# Altium schematic symbol library PowerAdjusment.SchLib: 9 symbols
Pins are listed as number, name and electrical type; pins without a type are passive.

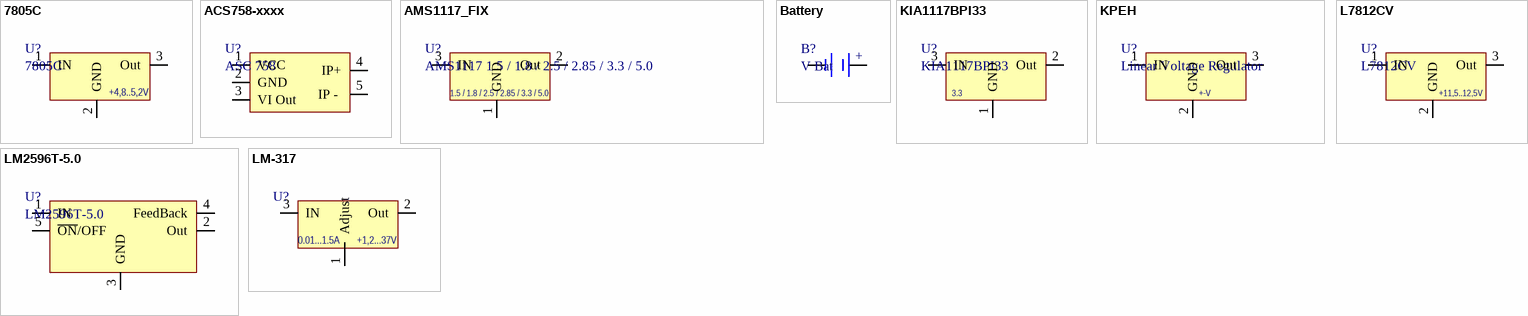
[diagram p0: symbols 7805C to LM-317]

## 7805C
designator U?  V Out: +4,8..5,2V
Voltage Regulator; Manufacturer: Интеграл; I output (A): 1; Max Voltage In (V): 35; Напряжение выход-вход (dropout): >2V; t: -10..+70°C; Case: D2PAK; Shema: http://tec.org.ru/_bd/5/57349922.jpg; Name: 7805C
footprint D-PAK
pins: 1 IN, 2 GND, 3 Out

## ACS758-xxxx
designator U?, comment ASC 758
Current sensor ASC-758; Name: ASC 758
footprint CB-PFF (ACS758) (Allegro Current sensor)
pins: 1 VCC, 2 GND (power), 3 VI Out (power), 4 IP+ (power), 5 IP -  (power)

## AMS1117_FIX
designator U?, comment AMS1117 1.5 / 1.8 / 2.5 / 2.85 / 3.3 / 5.0  V Out: 1.5 / 1.8 / 2.5 / 2.85 / 3.3 / 5.0
Voltage Regulator SOT-223-3; I output (A): 1; Max Voltage In (V): 15; t: -40...+125°C; Dropuot: 1-1.3V; Capacitors: In: 10mF; Out: 22mF; Case: SOT-223; Name: AMS1117 1.5 / 1.8 / 2.5 / 2.85 / 3.3 / 5.0; Dtatsheet: https://lib.chipdip.ru/029/DOC001029248.pdf
footprint SOT-223-3 (AMS)
footprint SOT-223-3(S) AMS
pins: 1 GND, 2 Out (power), 3 IN (power)

## Battery
designator B?, comment V Bat
Battery
footprint CR2032 DIP
footprint CR2032 SMT
pins: 1 VC, 2 GND
text: +

## KIA1117BPI33
designator U?  V Out: 3.3
Voltage Regulator TO220; Manufacturer: KEC Ltd.; I output (A): 1; Max Voltage In (V): 12; t: -40...+125°C; Dropuot: 1.5V; Capacitors: In: 10uF; Out 10uF Tantal; Case: TO-220; Name: KIA1117BPI33; Dtatsheet: http://tec.org.ru/board/0-0-0-2438-20
footprint TO220-2
footprint TO220-2 Horisontal
pins: 1 GND, 2 Out (power), 3 IN (power)

## KPEH
designator U?, comment Linear Voltage Regulator  V Out: +-V
t: 0...+150°C; Case: TO220; Name: Linear Voltage Regulator
footprint TO220-2
footprint TO220-2 Horisontal
footprint TO220 L
footprint TO220 L - 20DG
footprint TO220 R - 30dg
footprint TO220 R - thin
pins: 1 IN (power), 2 GND, 3 Out (power)

## L7812CV
designator U?  V Out: +11,5..12,5V
Voltage Regulator; Manufacturer: ST; I output (A): 1.5; Max Voltage In (V): 35; t: 0...+150°C; Dropuot: 2V; Case: TO220; Name: L7812CV; Dtatsheet: http://tec.org.ru/board/0-0-0-1633-20
footprint TO220-2
footprint TO220-2 Horisontal
pins: 1 IN (power), 2 GND, 3 Out (power)

## LM2596T-5.0
designator U?
Voltage Regulator; Manufacturer: National Semiconductor; I output (A): 3; Max Voltage In (V): 40; Name: LM2596T-5.0; Case: TO220-5
footprint TO220-5 Horisontal
footprint TO220-5 Horisontal (compact)
footprint TO220-5 Vertical
pins: 1 IN (power), 2 Out (power), 3 GND, 4 FeedBack, 5 ~{ON}/OFF

## LM-317
designator U?  I output (A) Adjustable: 0.01...1.5A  V Out: +1,2...37V
Voltage Regulator; Напряжение выход-вход (dropout): 2 v; Case: TO-220; Datasheet: http://www.ti.com/lit/ds/symlink/lm317.pdf
footprint TO220-2
footprint TO220-2 Horisontal
footprint TO220 L
footprint TO220 L - 20DG
footprint TO220 R - 30dg
footprint TO220 R - thin
pins: 1 Adjust, 2 Out (power), 3 IN (power)